# Altium footprint library SignalCommunications.PCBLIB: 466 footprints (part 29 of 30)
Each footprint in its own frame and in the unit in brackets; x right, y up, seen from the top. Pads: shape width x height; smd on the part's side, far side on the other; paste and mask are expansions set on the pad; w line width, h text height; cw(c..) or ccw(c..) is an arc to the next point about the centre after c.
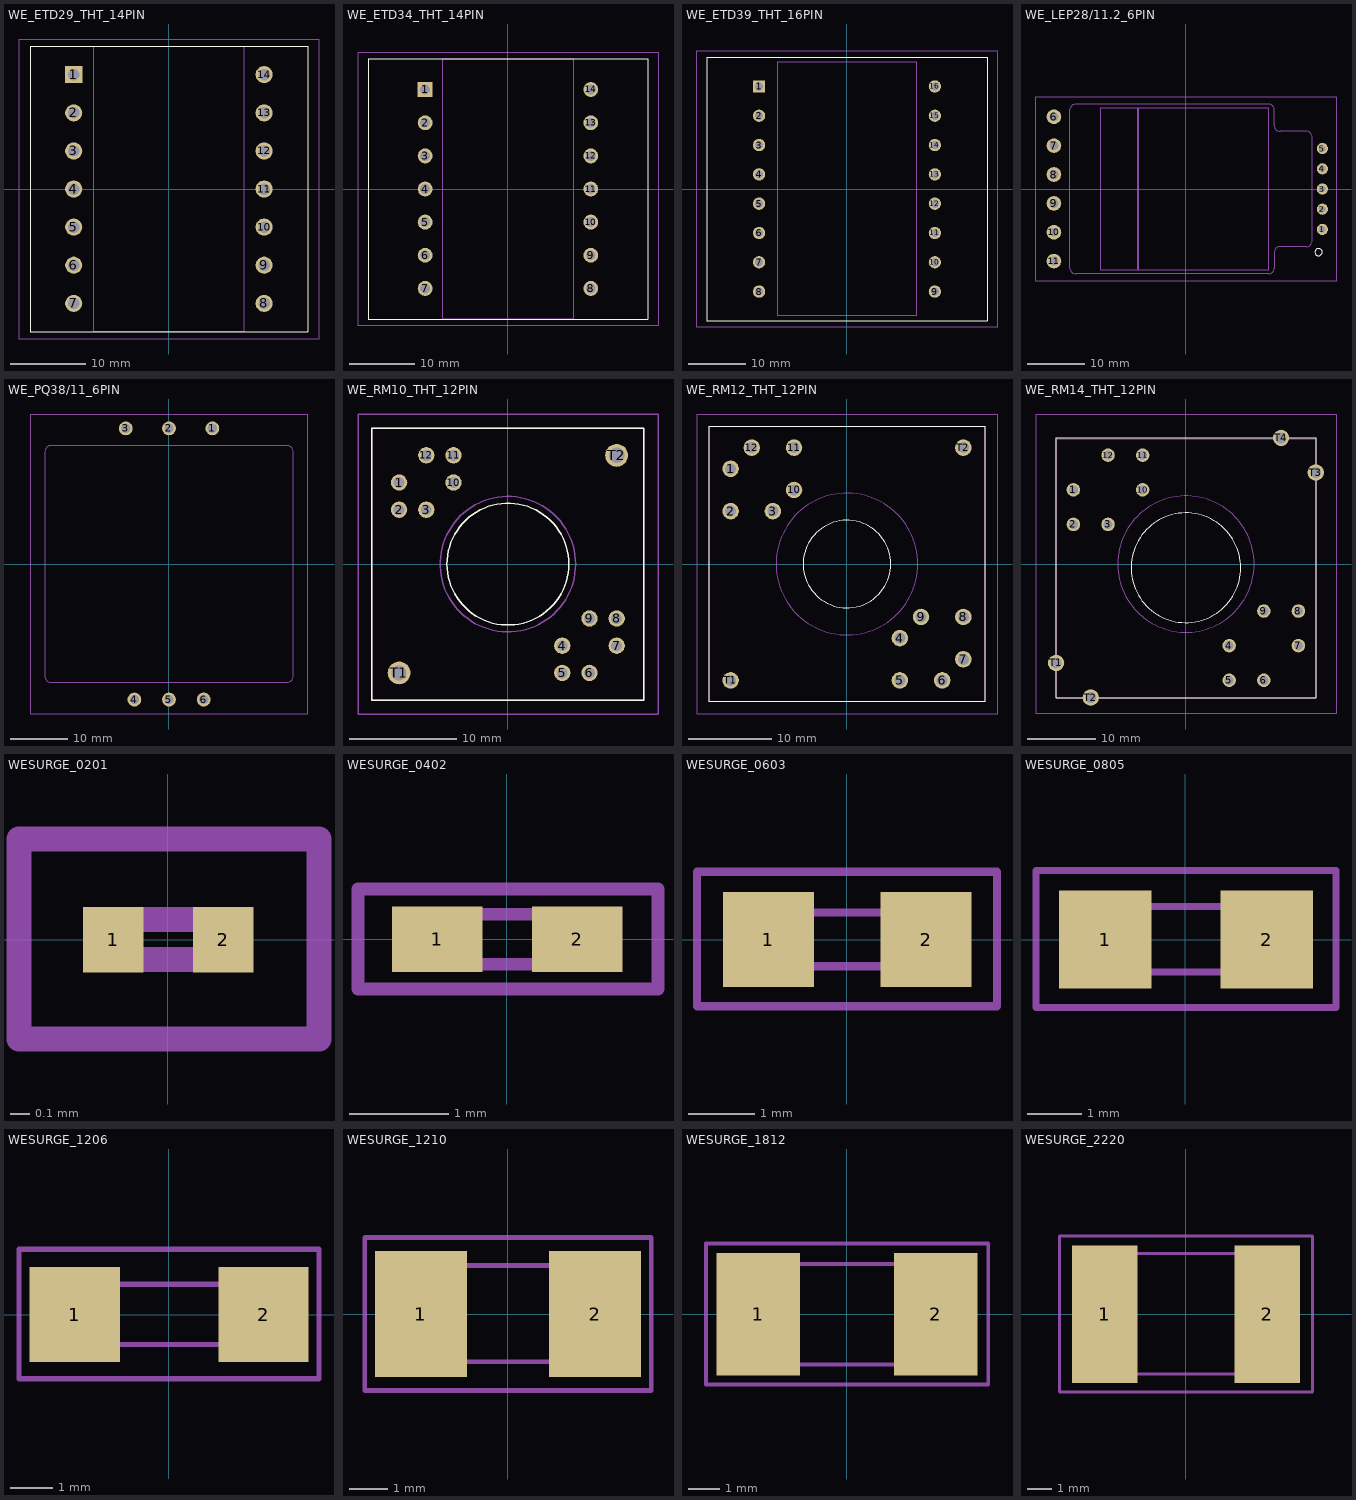
[diagram p28: the footprints below, top view; thin cyan lines are the x and y axes]

## WE_ETD29_THT_14PIN [mil]
pads (14):
  rect 90x90 hole 60: 1(-500,601)
  round 90 hole 60: 2(-500,400) 3(-500,200) 4(-500,0) 5(-500,-200) 6(-500,-400) 7(-500,-600.39) 8(500,-600.39) 9(500,-400) 10(500,-200) 11(500,0) 12(500,200) 13(500,400) 14(500,601)
Top Overlay:
  lines w5: -728.35,-748.03 729,-748.03 729,749 -728.35,749 -728.35,-748.03
Mechanical 10:
  lines w5: -393.7,-748.03 394,-748.03 394,749 -393.7,749 -393.7,-748.03
Mechanical 27:
  lines w5: -787.4,-787.4 788,-787.4 788,788 -787.4,788 -787.4,-787.4

## WE_ETD34_THT_14PIN [mil]
pads (14):
  rect 90x90 hole 60: 1(-500,601)
  round 90 hole 60: 2(-500,400) 3(-500,200) 4(-500,0) 5(-500,-200) 6(-500,-400) 7(-500,-600.39) 8(500,-600.39) 9(500,-400) 10(500,-200) 11(500,0) 12(500,200) 13(500,400) 14(500,601)
Top Overlay:
  lines w5: -842.52,-787.4 -842.52,788 843,788 843,-787.4 -842.52,-787.4
Mechanical 10:
  lines w5: -393.7,-787.4 394,-787.4 394,788 -393.7,788 -393.7,-787.4
Mechanical 27:
  lines w5: -905.51,-826.77 906,-826.77 906,827 -905.51,827 -905.51,-826.77

## WE_ETD39_THT_16PIN [mil]
pads (16):
  rect 84x84 hole 56: 1(-600,700)
  round 84 hole 56: 2(-600,500) 3(-600,300) 4(-600,100) 5(-600,-100) 6(-600,-300) 7(-600,-500) 8(-600,-700) 9(600,-700) 10(600,-500) 11(600,-300) 12(600,-100) 13(600,100) 14(600,300) 15(600,500) 16(600,700)
Top Overlay:
  lines w5: -956.69,-899.61 -956.69,900 957,900 957,-899.61 -956.69,-899.61
Mechanical 10:
  lines w5: -472.44,-866.14 473,-866.14 473,867 -472.44,867 -472.44,-866.14
Mechanical 27:
  lines w5: -1023.62,-944.88 1024,-944.88 1024,945 -1023.62,945 -1023.62,-944.88

## WE_LEP28/11.2_6PIN [mil]
pads (11):
  round 76 hole 44: 1(931,-275.59) 2(931,-137.8) 3(931,0) 4(931,138) 5(931,276)
  round 100 hole 60: 6(-901.18,493) 7(-901.18,296) 8(-901.18,99) 9(-901.18,-98.43) 10(-901.18,-295.28) 11(-901.18,-492.13)
Top Overlay:
  circle w0: c905,-431.1 r25
Mechanical 11:
  lines w0: -792.32,-539.37 ccw(c-752.95,-539.37) -752.95,-578.74 564,-578.74 ccw(c563.82,-539.56) 603,-539.37 603,-433.07 cw(c642.18,-432.89) 642,-393.7 821,-393.7 ccw(c821.32,-354.02) 861,-354.33 861,355 ccw(c821.5,354.5) 821,394 642,394 cw(c642.5,433.5) 603,434 603,540 ccw(c564,540) 564,579 -752.95,579 ccw(c-753.14,539.82) -792.32,540 -792.32,-539.37
Mechanical 16:
  lines w0: -326.38,-551.18 -326.38,552
  lines w5: -326.38,-551.18 566,-551.18 566,552 -326.38,552 ; -586.22,-551.18 -330.31,-551.18 -330.31,552 -586.22,552 -586.22,-551.18
Mechanical 27:
  lines w5: -1023.62,-629.92 1024,-629.92 1024,630 -1023.62,630 -1023.62,-629.92

## WE_PQ38/11_6PIN [mil]
pads (6):
  round 94.5 hole 63: 1(296,926) 2(0,926) 3(-295.28,926) 4(-236.22,-925.2) 5(0,-925.2) 6(237,-925.2)
Mechanical 11:
  lines w0: -846.46,-767.72 -846.46,768 cw(c-806.77,768.32) -807.09,808 808,808 cw(c807.5,768.5) 847,768 847,-767.72 cw(c807.82,-767.9) 808,-807.09 -807.09,-807.09 cw(c-807.09,-767.72) -846.46,-767.72
Mechanical 27:
  lines w5: -944.88,-1023.62 945,-1023.62 945,1024 -944.88,1024 -944.88,-1023.62

## WE_RM10_THT_12PIN [mil]
pads (14):
  round 60 hole 40: 1(-400,300) 2(-400,200) 3(-300,200) 4(200,-300) 5(200,-400) 6(300,-400) 7(400,-300) 8(400,-200) 9(300,-200) 10(-200,300) 11(-200,400) 12(-300,400)
  round 84 hole 56: T1(-400,-400) T2(400,400)
Top Overlay:
  circle w5: c0,0 r224
  lines w5: -500,-500 500,-500 500,500 -500,500 -500,-500
Mechanical 10:
  circle w5: c0,0 r249
Mechanical 16:
  lines w5: -500,-500 500,-500 500,500 -500,500 -500,-500
Mechanical 27:
  lines w5: -551.18,-551.18 552,-551.18 552,552 -551.18,552 -551.18,-551.18

## WE_RM12_THT_12PIN [mil]
pads (14):
  round 78 hole 52: 1(-550,450) 2(-550,250) 3(-350,250) 4(250,-350) 5(250,-550) 6(450,-550) 7(550,-450) 8(550,-250) 9(350,-250) 10(-250,350) 11(-250,550) 12(-450,550) T1(-550,-550) T2(550,550)
Top Overlay:
  circle w5: c0,0 r207
  lines w5: -650,-650 650,-650 650,650 -650,650 -650,-650
Mechanical 10:
  circle w5: c0,0 r335
Mechanical 16:
  lines w5: -650,-650 650,-650 650,650 -650,650 -650,-650
Mechanical 27:
  lines w5: -708.66,-708.66 709,-708.66 709,709 -708.66,709 -708.66,-708.66

## WE_RM14_THT_12PIN [mil]
pads (16):
  round 78 hole 52: 1(-650,429) 2(-650,229) 3(-450,229) 4(250,-471.26) 5(250,-671.26) 6(450,-671.26) 7(650,-471.26) 8(650,-271.26) 9(450,-271.26) 10(-250,429) 11(-250,629) 12(-450,629)
  round 94.5 hole 63: T1(-750,-571.26) T2(-550,-771.26) T3(750,529) T4(550,729)
Top Overlay:
  circle w5: c0,-21.26 r317
  lines w5: -750,-771.26 -750,729 750,729 750,-771.26 -750,-771.26
Mechanical 10:
  circle w5: c0,0 r394
Mechanical 16:
  lines w5: -750,-775 750,-775 750,725 -750,725 -750,-775
Mechanical 27:
  lines w5: -866.14,-866.14 867,-866.14 867,867 -866.14,867 -866.14,-866.14

## WESURGE_0201 [mil]
pads (2):
  rect 12x13 smd: 1(-10.83,0) 2(11,0)
Mechanical 16:
  lines w5: -9.84,-3.94 -9.84,4 10,4 10,-3.94 -9.84,-3.94
Mechanical 27:
  lines w5: -29.53,-19.68 30,-19.68 30,20 -29.53,20 -29.53,-19.68

## WESURGE_0402 [mil]
pads (2):
  rect 36x26 smd: 1(-27.56,0) 2(28,0)
Mechanical 16:
  lines w5: -19.68,-9.84 20,-9.84 20,10 -19.68,10 -19.68,-9.84
Mechanical 27:
  lines w5: -59.06,-19.68 60,-19.68 60,20 -59.06,20 -59.06,-19.68

## WESURGE_0603 [mil]
pads (2):
  rect 54x56 smd: 1(-46.26,0) 2(47,0)
Mechanical 16:
  lines w5: -31.5,-15.75 32,-15.75 32,16 -31.5,16 -31.5,-15.75
Mechanical 27:
  lines w5: -88.58,-39.37 89,-39.37 89,40 -88.58,40 -88.58,-39.37

## WESURGE_0805 [mil]
pads (2):
  rect 67x71 smd: 1(-58.07,0) 2(59,0)
Mechanical 16:
  lines w5: -39.37,-23.62 40,-23.62 40,24 -39.37,24 -39.37,-23.62
Mechanical 27:
  lines w5: -108.27,-49.21 109,-49.21 109,50 -108.27,50 -108.27,-49.21

## WESURGE_1206 [mil]
pads (2):
  rect 83x87 smd: 1(-86.61,0) 2(87,0)
Mechanical 16:
  lines w5: -62.99,-27.56 63,-27.56 63,28 -62.99,28 -62.99,-27.56
Mechanical 27:
  lines w5: -137.8,-59.06 138,-59.06 138,60 -137.8,60 -137.8,-59.06

## WESURGE_1210 [mil]
pads (2):
  rect 95x130 smd: 1(-89.57,0) 2(90,0)
Mechanical 16:
  lines w5: -61.02,-49.21 -61.02,50 65,50 65,-49.21 -61.02,-49.21
Mechanical 27:
  lines w5: -147.64,-78.74 148,-78.74 148,79 -147.64,79 -147.64,-78.74

## WESURGE_1812 [mil]
pads (2):
  rect 105x154 smd: 1(-111.22,0) 2(112,0)
Mechanical 16:
  lines w5: -88.58,-62.99 89,-62.99 89,63 -88.58,63 -88.58,-62.99
Mechanical 27:
  lines w5: -177.17,-88.58 178,-88.58 178,89 -177.17,89 -177.17,-88.58

## WESURGE_2220 [mil]
pads (2):
  rect 107x225 smd: 1(-132.87,0) 2(133,0)
Mechanical 16:
  lines w5: -114.17,-98.43 -114.17,99 ; -112.2,-98.43 113,-98.43 ; -112.2,99 113,99 ; 115,-98.43 115,99
Mechanical 27:
  lines w5: -206.69,-127.95 207,-127.95 207,128 -206.69,128 -206.69,-127.95